# Altium schematic symbol library SMD Capacitors Electrolytic.SchLib: 17 symbols
Pins are listed as number, name and electrical type; pins without a type are passive.

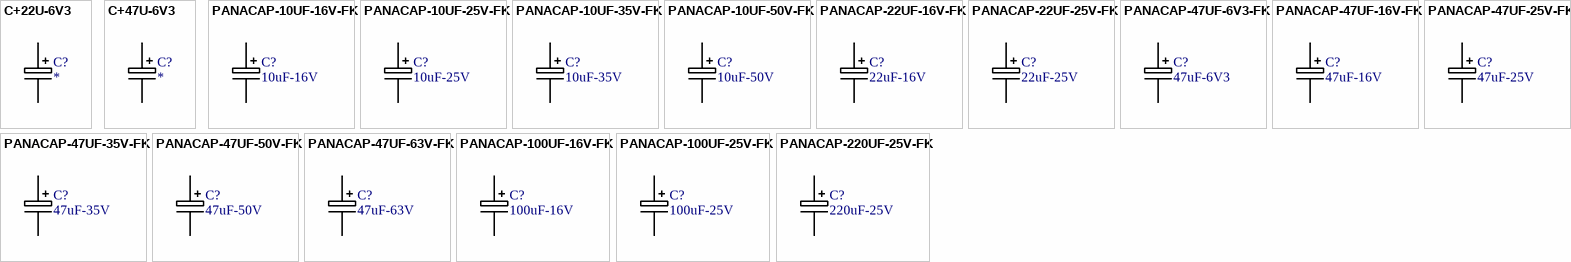
[diagram p0: symbols C+22U-6V3 to PANACAP-220UF-25V-FK]

## C+22U-6V3
designator C?
GENERIC CAPACITOR POLARISED; Supplier 1: Digi-Key; Supplier Part Number 1: PCE4373TR-ND
footprint PANACAP-B (Footprint not found)
pins: +, -

## C+47U-6V3
designator C?
GENERIC CAPACITOR POLARISED; Supplier 1: Digi-Key; Supplier Part Number 1: PCE4375TR-ND
footprint PANACAP-C
pins: +, -

## PANACAP-10UF-16V-FK
designator C?, comment 10uF-16V
GENERIC CAPACITOR POLARISED; Supplier 1: Digi-Key; Supplier Part Number 1: PCE3782TR-ND
footprint PANACAP-b
pins: +, -

## PANACAP-10UF-25V-FK
designator C?, comment 10uF-25V
GENERIC CAPACITOR POLARISED; Supplier 1: Digi-Key; Supplier Part Number 1: PCE4407TR-ND
footprint PANACAP-B
pins: +, -

## PANACAP-10UF-35V-FK
designator C?, comment 10uF-35V
GENERIC CAPACITOR POLARISED; Supplier 1: Digi-Key; Supplier Part Number 1: PCE3834TR-ND
footprint PANACAP-C
pins: +, -

## PANACAP-10UF-50V-FK
designator C?, comment 10uF-50V
GENERIC CAPACITOR POLARISED; Supplier 1: Digi-Key; Supplier Part Number 1: PCE3807TR-ND
footprint PANACAP-D-GENERIC
pins: +, -

## PANACAP-22UF-16V-FK
designator C?, comment 22uF-16V
GENERIC CAPACITOR POLARISED; Supplier 1: Digi-Key; Supplier Part Number 1: PCE3785TR-ND
footprint PANACAP-C
pins: +, -

## PANACAP-22UF-25V-FK
designator C?, comment 22uF-25V
GENERIC CAPACITOR POLARISED; Supplier 1: Digi-Key; Supplier Part Number 1: PCE3785DKR-ND
footprint PANACAP-C
pins: +, -

## PANACAP-47UF-6V3-FK
designator C?, comment 47uF-6V3
GENERIC CAPACITOR POLARISED; Supplier 1: Digi-Key; Supplier Part Number 1: PCE4374TR-ND
footprint PANACAP-C
pins: +, -

## PANACAP-47UF-16V-FK
designator C?, comment 47uF-16V
GENERIC CAPACITOR POLARISED; Supplier 1: Digi-Key; Supplier Part Number 1: PCE3398TR-ND
footprint PANACAP-D-GENERIC
pins: +, -

## PANACAP-47UF-25V-FK
designator C?, comment 47uF-25V
GENERIC CAPACITOR POLARISED; Supplier 1: Digi-Key; Supplier Part Number 1: PCE3804TR-ND
footprint PANACAP-D-GENERIC
pins: +, -

## PANACAP-47UF-35V-FK
designator C?, comment 47uF-35V
GENERIC CAPACITOR POLARISED; Supplier 1: Digi-Key; Supplier Part Number 1: PCE3842TR-ND
footprint PANACAP-D-GENERIC
pins: +, -

## PANACAP-47UF-50V-FK
designator C?, comment 47uF-50V
GENERIC CAPACITOR POLARISED; Supplier 1: Digi-Key; Supplier Part Number 1: PCE3816TR-ND
footprint PANACAP-E-GENERIC
pins: +, -

## PANACAP-47UF-63V-FK
designator C?, comment 47uF-63V
GENERIC CAPACITOR POLARISED; Supplier 1: Digi-Key; Supplier Part Number 1: PCE3823TR-ND
footprint PANACAP-F-GENERIC
pins: +, -

## PANACAP-100UF-16V-FK
designator C?, comment 100uF-16V
GENERIC CAPACITOR POLARISED; Supplier 1: Digi-Key; Supplier Part Number 1: PCE3783TR-ND
footprint PANACAP-D-GENERIC
pins: +, -

## PANACAP-100UF-25V-FK
designator C?, comment 100uF-25V
GENERIC CAPACITOR POLARISED; Supplier 1: Digi-Key; Supplier Part Number 1: PCE3408TR-ND
footprint PANACAP-e-GENERIC
pins: +, -

## PANACAP-220UF-25V-FK
designator C?, comment 220uF-25V
GENERIC CAPACITOR POLARISED; Supplier 1: Digi-Key; Supplier Part Number 1: PCE3400TR-ND
footprint PANACAP-F-GENERIC
pins: +, -